# EAGLE library part MICRO-USB_ (library MICRO-USB)
CONN RCPT MICRO USB B R/A SMD
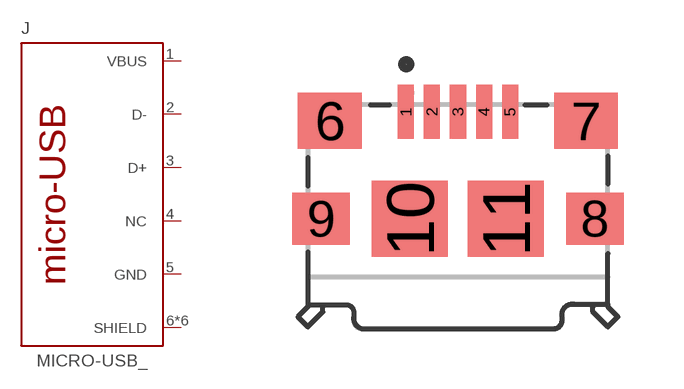
[diagram p0: symbol with the pads of TE_1981568-1; footprint TE_1981568-1]

Designator prefix J

## MICRO-USB_1981568-1 (APPLICATION: POWER & SIGNAL; CONNECTOR: USB-MICRO B; CURRENT_RATING: 1.8; DESIGNATOR: 1981568-1; FINISH: GOLD; FOOTPRINT: SMT; GENDER: Receptacle; LATEST_REVISION_DATE: 13AUG15; LATEST_REVISION_NOTE: REVISED PER ECO-15-009877; MANUFACTURER: TE CONNECTIVITY; MANUFACTURER_LINK: http://www.te.com/commerce/DocumentDelivery/DDEController?Action=showdoc&DocId=Customer+Drawing%7F1981568%7FE2%7Fpdf%7FEnglish%7FENG_CD_1981568_E2.pdf%7F1981568-1; NO_OF_POSITION: 5; ORIENTATION: Right Angle; PACKAGE: USB 2.0; PART_DESCRIPTION: MICRO USB 2.0 PECEPTACLE CONNECTOR R/A TYPE B ASSEMBLY; PART_REV: E2; PITCH: 0.65mm; PUBISHER: TE CONNECTIVITY; PUBLISHED: 07AUG2007; ROHS_COMPLIANT: YES; SERIES: MICRO USB 2.0; STANDARD: MANUFACTURER RECOMMENDATIONS; TECHNOLOGY: Cable-to-Board; TE_PART_NUMBER: 1981568-1; TYPE: USB 2.0 RECEPTACLE)  [TE_1981568-1]
1  VBUS
2  D-
3  D+
4  NC  nc
5  GND
6  SHIELD  nc
7  SHIELD  nc
8  SHIELD  nc
9  SHIELD  nc
10  SHIELD  nc
11  SHIELD  nc

## Footprint TE_1981568-1 (pad centres in mm)
smd 0.4 x 1.35: 1 -1.3,2.675; 2 -0.65,2.675; 3 0,2.675; 4 0.65,2.675; 5 1.3,2.675
smd 1.6 x 1.4: 6 -3.2,2.45; 7 3.2,2.45
smd 1.45 x 1.3: 8 3.425,0; 9 -3.425,0
smd 1.9 x 1.9: 10 -1.2,0; 11 1.2,0